# Altium integrated library NSC Converter Digital to Analog.IntLib: 73 symbols (part 2 of 2)
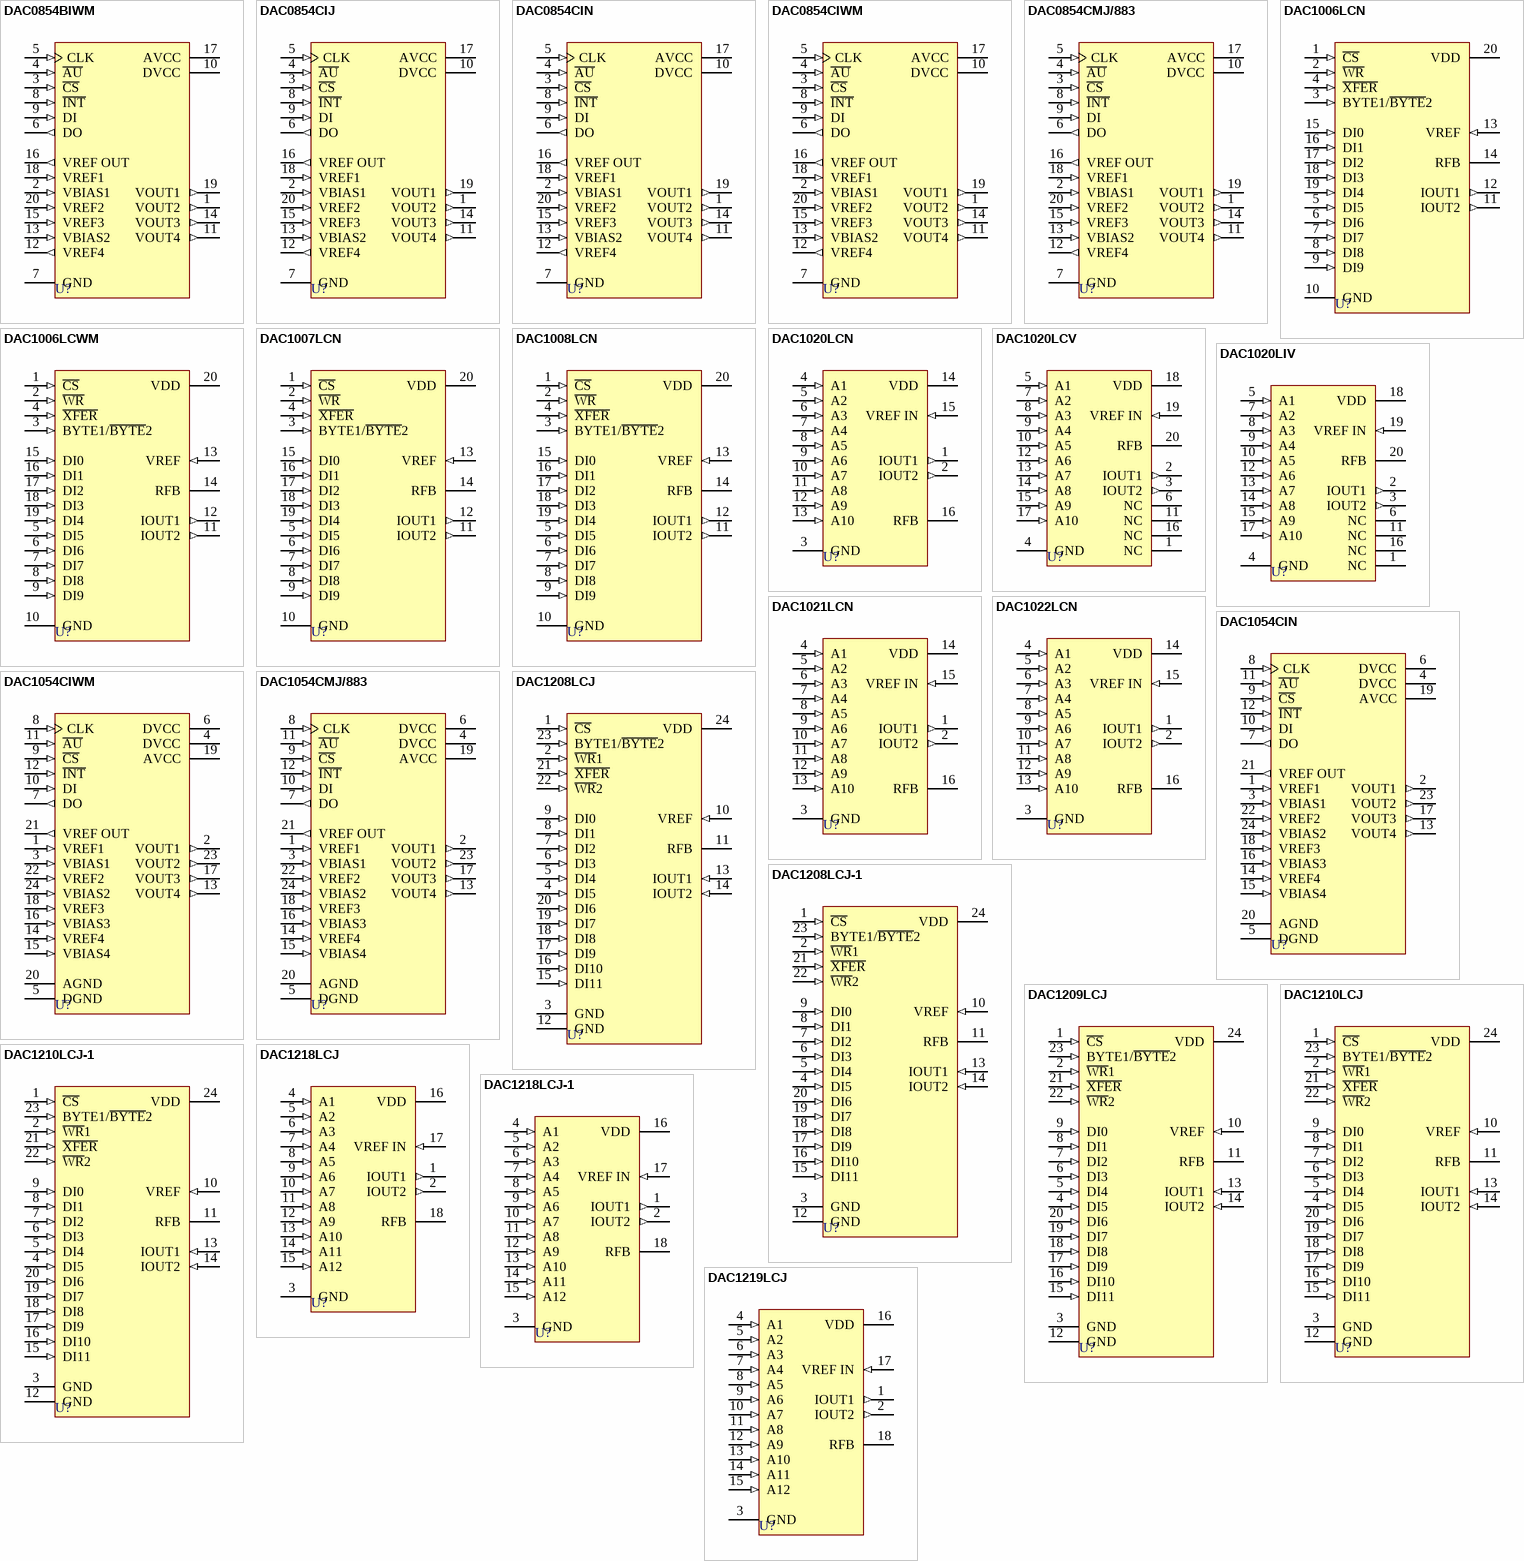
[diagram p3: symbols DAC0854BIWM to DAC1219LCJ]

## DAC1054CIN
designator U?
Quad 10-Bit Voltage-Output Serial D/A Converter with Readback; ComponentAvailability: Obsolete; Published: 15-Apr-2002; LatestRevisionDate: 06-Jun-2005; LatestRevisionNote: Stylized 3D Model Added.; DatasheetVersion: Jan-1995; PackageVersion: 2000; PackageReference: N24A; Publisher: Altium Limited; PackageDescription: DIP; 24 Leads; Row Spacing 15.24 mm; Pitch 2.54 mm; ComponentLink1Description: Manufacturer Link; ComponentLink1URL: http://www.national.com/; ComponentLink2Description: Datasheet; ComponentLink2URL: http://www.national.com/ds.cgi/DA/DAC1054.pdf; ComponentLink3Description: Discontinuation Notice; ComponentLink3URL: http://www.national.com/obs/obsolescence.txt; ComponentLink4Description: URL Link1; ComponentLink4URL: http://www.national.com/pf/DA/DAC1054.html
footprint N24A (DIP; 24 Leads; Row Spacing 15.24 mm; Pitch 2.54 mm)
3D model J24A (DIP; 24 Leads; Row Spacing 15.24 mm; Pitch 2.54 mm)
pins: 1 VREF1 (in), 2 VOUT1 (out), 3 VBIAS1 (in), 4 DVCC (power), 5 DGND (power), 6 DVCC (power), 7 DO (out), 8 CLK (in), 9 ~{CS} (in), 10 DI (in), 11 ~{AU} (in), 12 ~{INT} (in), 13 VOUT4 (out), 14 VREF4 (in), 15 VBIAS4 (in), 16 VBIAS3 (in), 17 VOUT3 (out), 18 VREF3 (in), 19 AVCC (power), 20 AGND (power), 21 VREF OUT (out), 22 VREF2 (in), 23 VOUT2 (out), 24 VBIAS2 (in)

## DAC1054CIWM
designator U?
Quad 10-Bit Voltage-Output Serial D/A Converter with Readback; ComponentAvailability: Obsolete; Published: 15-Apr-2002; LatestRevisionDate: 13-Apr-2006; LatestRevisionNote: IPC-7351 Footprint Added.; DatasheetVersion: Jan-1995; PackageVersion: 2000; PackageReference: M24B; Publisher: Altium Limited; PackageDescription: 24-Pin Small Outline Integrated Circuit 1.27 mm Pitch; ComponentLink1Description: Manufacturer Link; ComponentLink1URL: http://www.national.com/; ComponentLink2Description: Datasheet; ComponentLink2URL: http://www.national.com/ds.cgi/DA/DAC1054.pdf; ComponentLink3Description: Discontinuation Notice; ComponentLink3URL: http://www.national.com/obs/obsolescence.txt; ComponentLink4Description: URL Link1; ComponentLink4URL: http://www.national.com/pf/DA/DAC1054.html
footprint M24B_N (SOIC, 24-Leads, Body 15.4x7.5mm, Pitch 1.27mm, IPC Medium Density)
footprint M24B_L (SOIC, 24-Leads, Body 15.4x7.5mm, Pitch 1.27mm, IPC High Density)
footprint M24B_M (SOIC, 24-Leads, Body 15.4x7.5mm, Pitch 1.27mm, IPC Low Density)
3D model M24B (24-Pin Small Outline Integrated Circuit 1.27 mm Pitch)
pins: 1 VREF1 (in), 2 VOUT1 (out), 3 VBIAS1 (in), 4 DVCC (power), 5 DGND (power), 6 DVCC (power), 7 DO (out), 8 CLK (in), 9 ~{CS} (in), 10 DI (in), 11 ~{AU} (in), 12 ~{INT} (in), 13 VOUT4 (out), 14 VREF4 (in), 15 VBIAS4 (in), 16 VBIAS3 (in), 17 VOUT3 (out), 18 VREF3 (in), 19 AVCC (power), 20 AGND (power), 21 VREF OUT (out), 22 VREF2 (in), 23 VOUT2 (out), 24 VBIAS2 (in)

## DAC1054CMJ/883
designator U?
Quad 10-Bit Voltage-Output Serial D/A Converter with Readback; Published: 15-Apr-2002; LatestRevisionDate: 06-Jun-2005; LatestRevisionNote: Stylized 3D Model Added.; DatasheetVersion: Jan-1995; PackageVersion: 2000; PackageReference: J24A; Publisher: Altium Limited; PackageDescription: DIP; 24 Leads; Row Spacing 15.24 mm; Pitch 2.54 mm; ComponentLink1Description: Manufacturer Link; ComponentLink1URL: http://www.national.com/; ComponentLink2Description: Datasheet; ComponentLink2URL: http://www.national.com/ds.cgi/DA/DAC1054.pdf; ComponentLink3Description: URL Link1; ComponentLink3URL: http://www.national.com/pf/DA/DAC1054.html
footprint J24A (DIP; 24 Leads; Row Spacing 15.24 mm; Pitch 2.54 mm)
3D model J24A (DIP; 24 Leads; Row Spacing 15.24 mm; Pitch 2.54 mm)
pins: 1 VREF1 (in), 2 VOUT1 (out), 3 VBIAS1 (in), 4 DVCC (power), 5 DGND (power), 6 DVCC (power), 7 DO (out), 8 CLK (in), 9 ~{CS} (in), 10 DI (in), 11 ~{AU} (in), 12 ~{INT} (in), 13 VOUT4 (out), 14 VREF4 (in), 15 VBIAS4 (in), 16 VBIAS3 (in), 17 VOUT3 (out), 18 VREF3 (in), 19 AVCC (power), 20 AGND (power), 21 VREF OUT (out), 22 VREF2 (in), 23 VOUT2 (out), 24 VBIAS2 (in)

## DAC1208LCJ
designator U?
12-Bit, µP-Compatible, Double-Buffered Digital-to-Analog Converter; ComponentAvailability: Obsolete; Published: 15-Apr-2002; LatestRevisionDate: 06-Jun-2005; LatestRevisionNote: Stylized 3D Model Added.; DatasheetVersion: Feb-1995; PackageVersion: 2000; PackageReference: J24A; Publisher: Altium Limited; PackageDescription: DIP; 24 Leads; Row Spacing 15.24 mm; Pitch 2.54 mm; ComponentLink1Description: Manufacturer Link; ComponentLink1URL: http://www.national.com/; ComponentLink2Description: Datasheet; ComponentLink2URL: http://www.national.com/ds.cgi/DA/DAC1208.pdf; ComponentLink3Description: Discontinuation Notice; ComponentLink3URL: http://www.national.com/obs/obsolescence.txt; ComponentLink4Description: URL Link1; ComponentLink4URL: http://www.national.com/pf/DA/DAC1208.html
footprint J24A (DIP; 24 Leads; Row Spacing 15.24 mm; Pitch 2.54 mm)
3D model J24A (DIP; 24 Leads; Row Spacing 15.24 mm; Pitch 2.54 mm)
pins: 1 ~{CS} (in), 2 ~{WR}1 (in), 3 GND (power), 4 DI5 (in), 5 DI4 (in), 6 DI3 (in), 7 DI2 (in), 8 DI1 (in), 9 DI0 (in), 10 VREF (in), 11 RFB, 12 GND (power), 13 IOUT1 (in), 14 IOUT2 (in), 15 DI11 (in), 16 DI10 (in), 17 DI9 (in), 18 DI8 (in), 19 DI7 (in), 20 DI6 (in), 21 ~{XFER} (in), 22 ~{WR}2 (in), 23 BYTE1/~{BYTE}2 (in), 24 VDD (power)

## DAC1208LCJ-1
designator U?
12-Bit, µP-Compatible, Double-Buffered Digital-to-Analog Converter; ComponentAvailability: Obsolete; Published: 15-Apr-2002; LatestRevisionDate: 06-Jun-2005; LatestRevisionNote: Stylized 3D Model Added.; DatasheetVersion: Feb-1995; PackageVersion: 2000; PackageReference: J24A; Publisher: Altium Limited; PackageDescription: DIP; 24 Leads; Row Spacing 15.24 mm; Pitch 2.54 mm; ComponentLink1Description: Manufacturer Link; ComponentLink1URL: http://www.national.com/; ComponentLink2Description: Datasheet; ComponentLink2URL: http://www.national.com/ds.cgi/DA/DAC1208.pdf; ComponentLink3Description: Discontinuation Notice; ComponentLink3URL: http://www.national.com/obs/obsolescence.txt; ComponentLink4Description: URL Link1; ComponentLink4URL: http://www.national.com/pf/DA/DAC1208.html
footprint J24A (DIP; 24 Leads; Row Spacing 15.24 mm; Pitch 2.54 mm)
3D model J24A (DIP; 24 Leads; Row Spacing 15.24 mm; Pitch 2.54 mm)
pins: 1 ~{CS} (in), 2 ~{WR}1 (in), 3 GND (power), 4 DI5 (in), 5 DI4 (in), 6 DI3 (in), 7 DI2 (in), 8 DI1 (in), 9 DI0 (in), 10 VREF (in), 11 RFB, 12 GND (power), 13 IOUT1 (in), 14 IOUT2 (in), 15 DI11 (in), 16 DI10 (in), 17 DI9 (in), 18 DI8 (in), 19 DI7 (in), 20 DI6 (in), 21 ~{XFER} (in), 22 ~{WR}2 (in), 23 BYTE1/~{BYTE}2 (in), 24 VDD (power)

## DAC1209LCJ
designator U?
12-Bit, µP-Compatible, Double-Buffered Digital-to-Analog Converter; ComponentAvailability: Obsolete; Published: 15-Apr-2002; LatestRevisionDate: 06-Jun-2005; LatestRevisionNote: Stylized 3D Model Added.; DatasheetVersion: Feb-1995; PackageVersion: 2000; PackageReference: J24A; Publisher: Altium Limited; PackageDescription: DIP; 24 Leads; Row Spacing 15.24 mm; Pitch 2.54 mm; ComponentLink1Description: Manufacturer Link; ComponentLink1URL: http://www.national.com/; ComponentLink2Description: Datasheet; ComponentLink2URL: http://www.national.com/ds.cgi/DA/DAC1208.pdf; ComponentLink3Description: Discontinuation Notice; ComponentLink3URL: http://www.national.com/obs/obsolescence.txt; ComponentLink4Description: URL Link1; ComponentLink4URL: http://www.national.com/pf/DA/DAC1209.html
footprint J24A (DIP; 24 Leads; Row Spacing 15.24 mm; Pitch 2.54 mm)
3D model J24A (DIP; 24 Leads; Row Spacing 15.24 mm; Pitch 2.54 mm)
pins: 1 ~{CS} (in), 2 ~{WR}1 (in), 3 GND (power), 4 DI5 (in), 5 DI4 (in), 6 DI3 (in), 7 DI2 (in), 8 DI1 (in), 9 DI0 (in), 10 VREF (in), 11 RFB, 12 GND (power), 13 IOUT1 (in), 14 IOUT2 (in), 15 DI11 (in), 16 DI10 (in), 17 DI9 (in), 18 DI8 (in), 19 DI7 (in), 20 DI6 (in), 21 ~{XFER} (in), 22 ~{WR}2 (in), 23 BYTE1/~{BYTE}2 (in), 24 VDD (power)

## DAC1210LCJ
designator U?
12-Bit, µP-Compatible, Double-Buffered Digital-to-Analog Converter; ComponentAvailability: Obsolete; Published: 15-Apr-2002; LatestRevisionDate: 06-Jun-2005; LatestRevisionNote: Stylized 3D Model Added.; DatasheetVersion: Feb-1995; PackageVersion: 2000; PackageReference: J24A; Publisher: Altium Limited; PackageDescription: DIP; 24 Leads; Row Spacing 15.24 mm; Pitch 2.54 mm; ComponentLink1Description: Manufacturer Link; ComponentLink1URL: http://www.national.com/; ComponentLink2Description: Datasheet; ComponentLink2URL: http://www.national.com/ds.cgi/DA/DAC1208.pdf; ComponentLink3Description: Discontinuation Notice; ComponentLink3URL: http://www.national.com/obs/obsolescence.txt; ComponentLink4Description: URL Link1; ComponentLink4URL: http://www.national.com/pf/DA/DAC1210.html
footprint J24A (DIP; 24 Leads; Row Spacing 15.24 mm; Pitch 2.54 mm)
3D model J24A (DIP; 24 Leads; Row Spacing 15.24 mm; Pitch 2.54 mm)
pins: 1 ~{CS} (in), 2 ~{WR}1 (in), 3 GND (power), 4 DI5 (in), 5 DI4 (in), 6 DI3 (in), 7 DI2 (in), 8 DI1 (in), 9 DI0 (in), 10 VREF (in), 11 RFB, 12 GND (power), 13 IOUT1 (in), 14 IOUT2 (in), 15 DI11 (in), 16 DI10 (in), 17 DI9 (in), 18 DI8 (in), 19 DI7 (in), 20 DI6 (in), 21 ~{XFER} (in), 22 ~{WR}2 (in), 23 BYTE1/~{BYTE}2 (in), 24 VDD (power)

## DAC1210LCJ-1
designator U?
12-Bit, µP-Compatible, Double-Buffered Digital-to-Analog Converter; ComponentAvailability: Obsolete; Published: 15-Apr-2002; LatestRevisionDate: 06-Jun-2005; LatestRevisionNote: Stylized 3D Model Added.; DatasheetVersion: Feb-1995; PackageVersion: 2000; PackageReference: J24A; Publisher: Altium Limited; PackageDescription: DIP; 24 Leads; Row Spacing 15.24 mm; Pitch 2.54 mm; ComponentLink1Description: Manufacturer Link; ComponentLink1URL: http://www.national.com/; ComponentLink2Description: Datasheet; ComponentLink2URL: http://www.national.com/ds.cgi/DA/DAC1208.pdf; ComponentLink3Description: Discontinuation Notice; ComponentLink3URL: http://www.national.com/obs/obsolescence.txt; ComponentLink4Description: URL Link1; ComponentLink4URL: http://www.national.com/pf/DA/DAC1210.html
footprint J24A (DIP; 24 Leads; Row Spacing 15.24 mm; Pitch 2.54 mm)
3D model J24A (DIP; 24 Leads; Row Spacing 15.24 mm; Pitch 2.54 mm)
pins: 1 ~{CS} (in), 2 ~{WR}1 (in), 3 GND (power), 4 DI5 (in), 5 DI4 (in), 6 DI3 (in), 7 DI2 (in), 8 DI1 (in), 9 DI0 (in), 10 VREF (in), 11 RFB, 12 GND (power), 13 IOUT1 (in), 14 IOUT2 (in), 15 DI11 (in), 16 DI10 (in), 17 DI9 (in), 18 DI8 (in), 19 DI7 (in), 20 DI6 (in), 21 ~{XFER} (in), 22 ~{WR}2 (in), 23 BYTE1/~{BYTE}2 (in), 24 VDD (power)

## DAC1218LCJ
designator U?
12-Bit Binary Multiplying D/A Converter; ComponentAvailability: Obsolete; Published: 15-Apr-2002; LatestRevisionDate: 06-Jun-2005; LatestRevisionNote: Stylized 3D Model Added.; DatasheetVersion: Dec-1994; PackageVersion: 1995; PackageReference: J18A; Publisher: Altium Limited; PackageDescription: DIP; 18 Leads; Row Spacing 7.62 mm; Pitch 2.54 mm; ComponentLink1Description: Manufacturer Link; ComponentLink1URL: http://www.national.com/; ComponentLink2Description: Datasheet; ComponentLink2URL: http://www.national.com/ds.cgi/DA/DAC1218.pdf; ComponentLink3Description: Discontinuation Notice; ComponentLink3URL: http://www.national.com/obs/obsolescence.txt; ComponentLink4Description: URL Link1; ComponentLink4URL: http://www.national.com/pf/DA/DAC1218.html
footprint J18A (DIP; 18 Leads; Row Spacing 7.62 mm; Pitch 2.54 mm)
3D model J18A (DIP; 18 Leads; Row Spacing 7.62 mm; Pitch 2.54 mm)
pins: 1 IOUT1 (out), 2 IOUT2 (out), 3 GND (power), 4 A1 (in), 5 A2 (in), 6 A3 (in), 7 A4 (in), 8 A5 (in), 9 A6 (in), 10 A7 (in), 11 A8 (in), 12 A9 (in), 13 A10 (in), 14 A11 (in), 15 A12 (in), 16 VDD (power), 17 VREF IN (in), 18 RFB

## DAC1218LCJ-1
designator U?
12-Bit Binary Multiplying D/A Converter; ComponentAvailability: Obsolete; Published: 15-Apr-2002; LatestRevisionDate: 06-Jun-2005; LatestRevisionNote: Stylized 3D Model Added.; DatasheetVersion: Dec-1994; PackageVersion: 1995; PackageReference: J18A; Publisher: Altium Limited; PackageDescription: DIP; 18 Leads; Row Spacing 7.62 mm; Pitch 2.54 mm; ComponentLink1Description: Manufacturer Link; ComponentLink1URL: http://www.national.com/; ComponentLink2Description: Datasheet; ComponentLink2URL: http://www.national.com/ds.cgi/DA/DAC1218.pdf; ComponentLink3Description: Discontinuation Notice; ComponentLink3URL: http://www.national.com/obs/obsolescence.txt; ComponentLink4Description: URL Link1; ComponentLink4URL: http://www.national.com/pf/DA/DAC1218.html
footprint J18A (DIP; 18 Leads; Row Spacing 7.62 mm; Pitch 2.54 mm)
3D model J18A (DIP; 18 Leads; Row Spacing 7.62 mm; Pitch 2.54 mm)
pins: 1 IOUT1 (out), 2 IOUT2 (out), 3 GND (power), 4 A1 (in), 5 A2 (in), 6 A3 (in), 7 A4 (in), 8 A5 (in), 9 A6 (in), 10 A7 (in), 11 A8 (in), 12 A9 (in), 13 A10 (in), 14 A11 (in), 15 A12 (in), 16 VDD (power), 17 VREF IN (in), 18 RFB

## DAC1219LCJ
designator U?
12-Bit Binary Multiplying D/A Converter; ComponentAvailability: Obsolete; Published: 15-Apr-2002; LatestRevisionDate: 06-Jun-2005; LatestRevisionNote: Stylized 3D Model Added.; DatasheetVersion: Dec-1994; PackageVersion: 1995; PackageReference: J18A; Publisher: Altium Limited; PackageDescription: DIP; 18 Leads; Row Spacing 7.62 mm; Pitch 2.54 mm; ComponentLink1Description: Manufacturer Link; ComponentLink1URL: http://www.national.com/; ComponentLink2Description: Datasheet; ComponentLink2URL: http://www.national.com/ds.cgi/DA/DAC1218.pdf; ComponentLink3Description: Discontinuation Notice; ComponentLink3URL: http://www.national.com/obs/obsolescence.txt; ComponentLink4Description: URL Link1; ComponentLink4URL: http://www.national.com/pf/DA/DAC1219.html
footprint J18A (DIP; 18 Leads; Row Spacing 7.62 mm; Pitch 2.54 mm)
3D model J18A (DIP; 18 Leads; Row Spacing 7.62 mm; Pitch 2.54 mm)
pins: 1 IOUT1 (out), 2 IOUT2 (out), 3 GND (power), 4 A1 (in), 5 A2 (in), 6 A3 (in), 7 A4 (in), 8 A5 (in), 9 A6 (in), 10 A7 (in), 11 A8 (in), 12 A9 (in), 13 A10 (in), 14 A11 (in), 15 A12 (in), 16 VDD (power), 17 VREF IN (in), 18 RFB

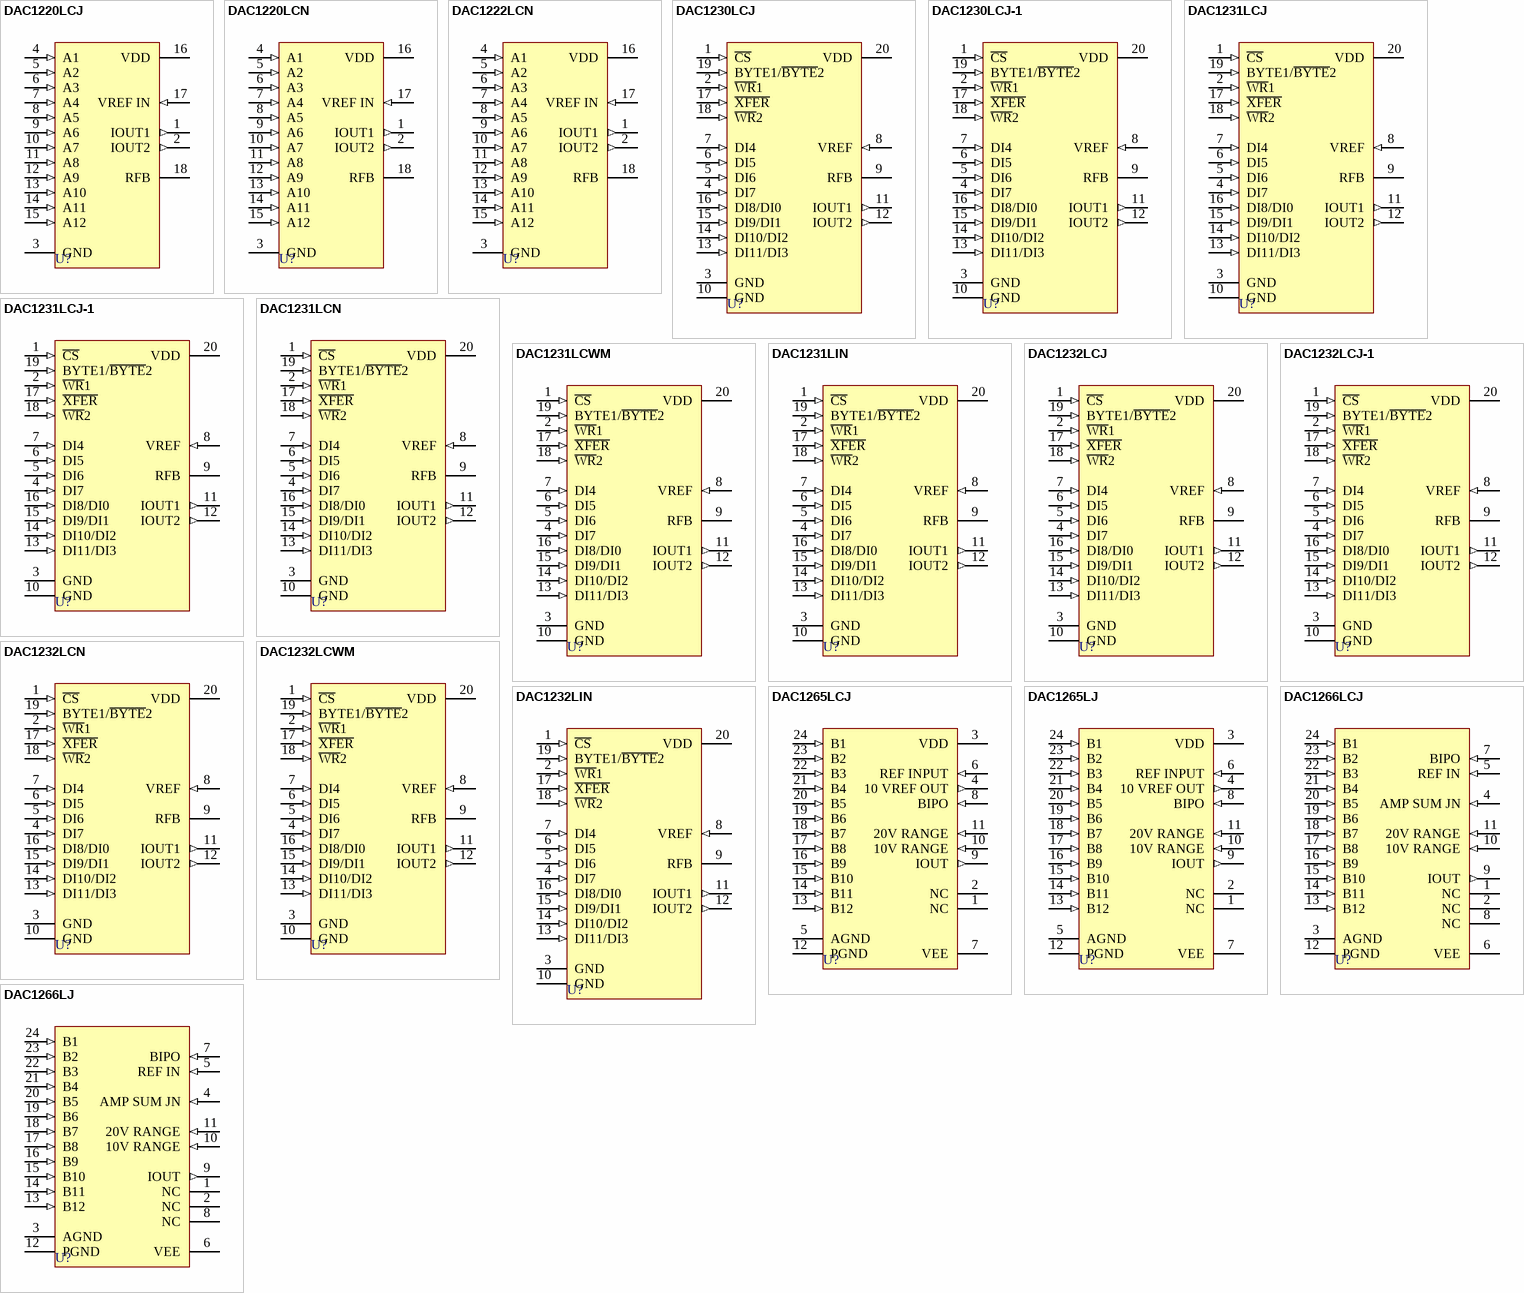
[diagram p2: symbols DAC1220LCJ to DAC1266LJ]

## DAC1220LCJ
designator U?
12-Bit Binary Multiplying D/A Converter; ComponentAvailability: Obsolete; Published: 15-Apr-2002; LatestRevisionDate: 06-Jun-2005; LatestRevisionNote: Stylized 3D Model Added.; DatasheetVersion: May-1996; PackageVersion: 1995; PackageReference: J18A; Publisher: Altium Limited; PackageDescription: DIP; 18 Leads; Row Spacing 7.62 mm; Pitch 2.54 mm; ComponentLink1Description: Manufacturer Link; ComponentLink1URL: http://www.national.com/; ComponentLink2Description: Datasheet; ComponentLink2URL: http://www.national.com/ds.cgi/DA/DAC1020.pdf; ComponentLink3Description: Discontinuation Notice; ComponentLink3URL: http://www.national.com/obs/obsolescence.txt; ComponentLink4Description: URL Link1; ComponentLink4URL: http://www.national.com/pf/DA/DAC1220.html
footprint J18A (DIP; 18 Leads; Row Spacing 7.62 mm; Pitch 2.54 mm)
3D model J18A (DIP; 18 Leads; Row Spacing 7.62 mm; Pitch 2.54 mm)
pins: 1 IOUT1 (out), 2 IOUT2 (out), 3 GND (power), 4 A1 (in), 5 A2 (in), 6 A3 (in), 7 A4 (in), 8 A5 (in), 9 A6 (in), 10 A7 (in), 11 A8 (in), 12 A9 (in), 13 A10 (in), 14 A11 (in), 15 A12 (in), 16 VDD (power), 17 VREF IN (in), 18 RFB

## DAC1220LCN
designator U?
12-Bit Binary Multiplying D/A Converter; ComponentAvailability: Obsolete; Published: 15-Apr-2002; LatestRevisionDate: 06-Jun-2005; LatestRevisionNote: Stylized 3D Model Added.; DatasheetVersion: May-1996; PackageVersion: 1995; PackageReference: N18A; Publisher: Altium Limited; PackageDescription: DIP; 18 Leads; Row Spacing 7.62 mm; Pitch 2.54 mm; Code_JEDEC: MS-001-BC; ComponentLink1Description: Manufacturer Link; ComponentLink1URL: http://www.national.com/; ComponentLink2Description: Datasheet; ComponentLink2URL: http://www.national.com/ds.cgi/DA/DAC1020.pdf; ComponentLink3Description: Discontinuation Notice; ComponentLink3URL: http://www.national.com/obs/obsolescence.txt; ComponentLink4Description: URL Link1; ComponentLink4URL: http://www.national.com/pf/DA/DAC1220.html
footprint N18A (DIP; 18 Leads; Row Spacing 7.62 mm; Pitch 2.54 mm)
3D model N18A (DIP; 18 Leads; Row Spacing 7.62 mm; Pitch 2.54 mm)
pins: 1 IOUT1 (out), 2 IOUT2 (out), 3 GND (power), 4 A1 (in), 5 A2 (in), 6 A3 (in), 7 A4 (in), 8 A5 (in), 9 A6 (in), 10 A7 (in), 11 A8 (in), 12 A9 (in), 13 A10 (in), 14 A11 (in), 15 A12 (in), 16 VDD (power), 17 VREF IN (in), 18 RFB

## DAC1222LCN
designator U?
12-Bit Binary Multiplying D/A Converter; ComponentAvailability: Obsolete; Published: 15-Apr-2002; LatestRevisionDate: 06-Jun-2005; LatestRevisionNote: Stylized 3D Model Added.; DatasheetVersion: May-1996; PackageVersion: 1995; PackageReference: N18A; Publisher: Altium Limited; PackageDescription: DIP; 18 Leads; Row Spacing 7.62 mm; Pitch 2.54 mm; Code_JEDEC: MS-001-BC; ComponentLink1Description: Manufacturer Link; ComponentLink1URL: http://www.national.com/; ComponentLink2Description: Datasheet; ComponentLink2URL: http://www.national.com/ds.cgi/DA/DAC1020.pdf; ComponentLink3Description: Discontinuation Notice; ComponentLink3URL: http://www.national.com/obs/obsolescence.txt; ComponentLink4Description: URL Link1; ComponentLink4URL: http://www.national.com/pf/DA/DAC1222.html
footprint N18A (DIP; 18 Leads; Row Spacing 7.62 mm; Pitch 2.54 mm)
3D model N18A (DIP; 18 Leads; Row Spacing 7.62 mm; Pitch 2.54 mm)
pins: 1 IOUT1 (out), 2 IOUT2 (out), 3 GND (power), 4 A1 (in), 5 A2 (in), 6 A3 (in), 7 A4 (in), 8 A5 (in), 9 A6 (in), 10 A7 (in), 11 A8 (in), 12 A9 (in), 13 A10 (in), 14 A11 (in), 15 A12 (in), 16 VDD (power), 17 VREF IN (in), 18 RFB

## DAC1230LCJ
designator U?
12-Bit, µP-Compatible, Double-Buffered Digital-to-Analog Converter; ComponentAvailability: Obsolete; Published: 15-Apr-2002; LatestRevisionDate: 06-Jun-2005; LatestRevisionNote: Stylized 3D Model Added.; DatasheetVersion: Feb-1995; PackageVersion: 2000; PackageReference: J20A; Publisher: Altium Limited; PackageDescription: DIP; 20 Leads; Row Spacing 7.62 mm; Pitch 2.54 mm; Code_JEDEC: MS-015-AE; ComponentLink1Description: Manufacturer Link; ComponentLink1URL: http://www.national.com/; ComponentLink2Description: Datasheet; ComponentLink2URL: http://www.national.com/ds.cgi/DA/DAC1208.pdf; ComponentLink3Description: Discontinuation Notice; ComponentLink3URL: http://www.national.com/obs/obsolescence.txt; ComponentLink4Description: URL Link1; ComponentLink4URL: http://www.national.com/pf/DA/DAC1230.html
footprint J20A (DIP; 20 Leads; Row Spacing 7.62 mm; Pitch 2.54 mm)
3D model J20A (DIP; 20 Leads; Row Spacing 7.62 mm; Pitch 2.54 mm)
pins: 1 ~{CS} (in), 2 ~{WR}1 (in), 3 GND (power), 4 DI7 (in), 5 DI6 (in), 6 DI5 (in), 7 DI4 (in), 8 VREF (in), 9 RFB, 10 GND (power), 11 IOUT1 (out), 12 IOUT2 (out), 13 DI11/DI3 (in), 14 DI10/DI2 (in), 15 DI9/DI1 (in), 16 DI8/DI0 (in), 17 ~{XFER} (in), 18 ~{WR}2 (in), 19 BYTE1/~{BYTE}2 (in), 20 VDD (power)

## DAC1230LCJ-1
designator U?
12-Bit, µP-Compatible, Double-Buffered Digital-to-Analog Converter; ComponentAvailability: Obsolete; Published: 15-Apr-2002; LatestRevisionDate: 06-Jun-2005; LatestRevisionNote: Stylized 3D Model Added.; DatasheetVersion: Feb-1995; PackageVersion: 2000; PackageReference: J20A; Publisher: Altium Limited; PackageDescription: DIP; 20 Leads; Row Spacing 7.62 mm; Pitch 2.54 mm; Code_JEDEC: MS-015-AE; ComponentLink1Description: Manufacturer Link; ComponentLink1URL: http://www.national.com/; ComponentLink2Description: Datasheet; ComponentLink2URL: http://www.national.com/ds.cgi/DA/DAC1208.pdf; ComponentLink3Description: Discontinuation Notice; ComponentLink3URL: http://www.national.com/obs/obsolescence.txt; ComponentLink4Description: URL Link1; ComponentLink4URL: http://www.national.com/pf/DA/DAC1230.html
footprint J20A (DIP; 20 Leads; Row Spacing 7.62 mm; Pitch 2.54 mm)
3D model J20A (DIP; 20 Leads; Row Spacing 7.62 mm; Pitch 2.54 mm)
pins: 1 ~{CS} (in), 2 ~{WR}1 (in), 3 GND (power), 4 DI7 (in), 5 DI6 (in), 6 DI5 (in), 7 DI4 (in), 8 VREF (in), 9 RFB, 10 GND (power), 11 IOUT1 (out), 12 IOUT2 (out), 13 DI11/DI3 (in), 14 DI10/DI2 (in), 15 DI9/DI1 (in), 16 DI8/DI0 (in), 17 ~{XFER} (in), 18 ~{WR}2 (in), 19 BYTE1/~{BYTE}2 (in), 20 VDD (power)

## DAC1231LCJ
designator U?
12-Bit, µP-Compatible, Double-Buffered Digital-to-Analog Converter; ComponentAvailability: Obsolete; Published: 15-Apr-2002; LatestRevisionDate: 06-Jun-2005; LatestRevisionNote: Stylized 3D Model Added.; DatasheetVersion: Feb-1995; PackageVersion: 2000; PackageReference: J20A; Publisher: Altium Limited; PackageDescription: DIP; 20 Leads; Row Spacing 7.62 mm; Pitch 2.54 mm; Code_JEDEC: MS-015-AE; ComponentLink1Description: Manufacturer Link; ComponentLink1URL: http://www.national.com/; ComponentLink2Description: Datasheet; ComponentLink2URL: http://www.national.com/ds.cgi/DA/DAC1208.pdf; ComponentLink3Description: Discontinuation Notice; ComponentLink3URL: http://www.national.com/obs/obsolescence.txt; ComponentLink4Description: URL Link1; ComponentLink4URL: http://www.national.com/pf/DA/DAC1231.html
footprint J20A (DIP; 20 Leads; Row Spacing 7.62 mm; Pitch 2.54 mm)
3D model J20A (DIP; 20 Leads; Row Spacing 7.62 mm; Pitch 2.54 mm)
pins: 1 ~{CS} (in), 2 ~{WR}1 (in), 3 GND (power), 4 DI7 (in), 5 DI6 (in), 6 DI5 (in), 7 DI4 (in), 8 VREF (in), 9 RFB, 10 GND (power), 11 IOUT1 (out), 12 IOUT2 (out), 13 DI11/DI3 (in), 14 DI10/DI2 (in), 15 DI9/DI1 (in), 16 DI8/DI0 (in), 17 ~{XFER} (in), 18 ~{WR}2 (in), 19 BYTE1/~{BYTE}2 (in), 20 VDD (power)

## DAC1231LCJ-1
designator U?
12-Bit, µP-Compatible, Double-Buffered Digital-to-Analog Converter; ComponentAvailability: Obsolete; Published: 15-Apr-2002; LatestRevisionDate: 06-Jun-2005; LatestRevisionNote: Stylized 3D Model Added.; DatasheetVersion: Feb-1995; PackageVersion: 2000; PackageReference: J20A; Publisher: Altium Limited; PackageDescription: DIP; 20 Leads; Row Spacing 7.62 mm; Pitch 2.54 mm; Code_JEDEC: MS-015-AE; ComponentLink1Description: Manufacturer Link; ComponentLink1URL: http://www.national.com/; ComponentLink2Description: Datasheet; ComponentLink2URL: http://www.national.com/ds.cgi/DA/DAC1208.pdf; ComponentLink3Description: Discontinuation Notice; ComponentLink3URL: http://www.national.com/obs/obsolescence.txt; ComponentLink4Description: URL Link1; ComponentLink4URL: http://www.national.com/pf/DA/DAC1231.html
footprint J20A (DIP; 20 Leads; Row Spacing 7.62 mm; Pitch 2.54 mm)
3D model J20A (DIP; 20 Leads; Row Spacing 7.62 mm; Pitch 2.54 mm)
pins: 1 ~{CS} (in), 2 ~{WR}1 (in), 3 GND (power), 4 DI7 (in), 5 DI6 (in), 6 DI5 (in), 7 DI4 (in), 8 VREF (in), 9 RFB, 10 GND (power), 11 IOUT1 (out), 12 IOUT2 (out), 13 DI11/DI3 (in), 14 DI10/DI2 (in), 15 DI9/DI1 (in), 16 DI8/DI0 (in), 17 ~{XFER} (in), 18 ~{WR}2 (in), 19 BYTE1/~{BYTE}2 (in), 20 VDD (power)

## DAC1231LCN
designator U?
12-Bit, µP-Compatible, Double-Buffered Digital-to-Analog Converter; ComponentAvailability: Obsolete; Published: 15-Apr-2002; LatestRevisionDate: 06-Jun-2005; LatestRevisionNote: Stylized 3D Model Added.; DatasheetVersion: Feb-1995; PackageVersion: 2000; PackageReference: N20A; Publisher: Altium Limited; PackageDescription: DIP; 20 Leads; Row Spacing 7.62 mm; Pitch 2.54 mm; Code_JEDEC: MS-001-AD; ComponentLink1Description: Manufacturer Link; ComponentLink1URL: http://www.national.com/; ComponentLink2Description: Datasheet; ComponentLink2URL: http://www.national.com/ds.cgi/DA/DAC1208.pdf; ComponentLink3Description: Discontinuation Notice; ComponentLink3URL: http://www.national.com/obs/obsolescence.txt; ComponentLink4Description: URL Link1; ComponentLink4URL: http://www.national.com/pf/DA/DAC1231.html
footprint N20A (DIP; 20 Leads; Row Spacing 7.62 mm; Pitch 2.54 mm)
3D model N20A (DIP; 20 Leads; Row Spacing 7.62 mm; Pitch 2.54 mm)
pins: 1 ~{CS} (in), 2 ~{WR}1 (in), 3 GND (power), 4 DI7 (in), 5 DI6 (in), 6 DI5 (in), 7 DI4 (in), 8 VREF (in), 9 RFB, 10 GND (power), 11 IOUT1 (out), 12 IOUT2 (out), 13 DI11/DI3 (in), 14 DI10/DI2 (in), 15 DI9/DI1 (in), 16 DI8/DI0 (in), 17 ~{XFER} (in), 18 ~{WR}2 (in), 19 BYTE1/~{BYTE}2 (in), 20 VDD (power)

## DAC1231LCWM
designator U?
12-Bit, µP-Compatible, Double-Buffered Digital-to-Analog Converter; ComponentAvailability: Obsolete; Published: 15-Apr-2002; LatestRevisionDate: 13-Apr-2006; LatestRevisionNote: IPC-7351 Footprint Added.; DatasheetVersion: Feb-1995; PackageVersion: 2000; PackageReference: M20B; Publisher: Altium Limited; PackageDescription: 20-Pin Small Outline Integrated Circuit 1.27 mm Pitch; Code_JEDEC: MS-013-AC; Code_IPC: SOIC127P1030-20; ComponentLink1Description: Manufacturer Link; ComponentLink1URL: http://www.national.com/; ComponentLink2Description: Datasheet; ComponentLink2URL: http://www.national.com/ds.cgi/DA/DAC1208.pdf; ComponentLink3Description: Discontinuation Notice; ComponentLink3URL: http://www.national.com/obs/obsolescence.txt; ComponentLink4Description: URL Link1; ComponentLink4URL: http://www.national.com/pf/DA/DAC1231.html
footprint M20B_N (SOIC, 20-Leads, Body 12.8x7.5mm, Pitch 1.27mm, IPC Medium Density)
footprint M20B_L (SOIC, 20-Leads, Body 12.8x7.5mm, Pitch 1.27mm, IPC High Density)
footprint M20B_M (SOIC, 20-Leads, Body 12.8x7.5mm, Pitch 1.27mm, IPC Low Density)
3D model M20B (20-Pin Small Outline Integrated Circuit 1.27 mm Pitch)
pins: 1 ~{CS} (in), 2 ~{WR}1 (in), 3 GND (power), 4 DI7 (in), 5 DI6 (in), 6 DI5 (in), 7 DI4 (in), 8 VREF (in), 9 RFB, 10 GND (power), 11 IOUT1 (out), 12 IOUT2 (out), 13 DI11/DI3 (in), 14 DI10/DI2 (in), 15 DI9/DI1 (in), 16 DI8/DI0 (in), 17 ~{XFER} (in), 18 ~{WR}2 (in), 19 BYTE1/~{BYTE}2 (in), 20 VDD (power)

## DAC1231LIN
designator U?
12-Bit, µP-Compatible, Double-Buffered Digital-to-Analog Converter; Published: 15-Apr-2002; LatestRevisionDate: 06-Jun-2005; LatestRevisionNote: Stylized 3D Model Added.; DatasheetVersion: Feb-1995; PackageVersion: 2000; PackageReference: N20A; Publisher: Altium Limited; PackageDescription: DIP; 20 Leads; Row Spacing 7.62 mm; Pitch 2.54 mm; Code_JEDEC: MS-001-AD; ComponentLink1Description: Manufacturer Link; ComponentLink1URL: http://www.national.com/; ComponentLink2Description: Datasheet; ComponentLink2URL: http://www.national.com/ds.cgi/DA/DAC1208.pdf; ComponentLink3Description: URL Link1; ComponentLink3URL: http://www.national.com/pf/DA/DAC1231.html
footprint N20A (DIP; 20 Leads; Row Spacing 7.62 mm; Pitch 2.54 mm)
3D model N20A (DIP; 20 Leads; Row Spacing 7.62 mm; Pitch 2.54 mm)
pins: 1 ~{CS} (in), 2 ~{WR}1 (in), 3 GND (power), 4 DI7 (in), 5 DI6 (in), 6 DI5 (in), 7 DI4 (in), 8 VREF (in), 9 RFB, 10 GND (power), 11 IOUT1 (out), 12 IOUT2 (out), 13 DI11/DI3 (in), 14 DI10/DI2 (in), 15 DI9/DI1 (in), 16 DI8/DI0 (in), 17 ~{XFER} (in), 18 ~{WR}2 (in), 19 BYTE1/~{BYTE}2 (in), 20 VDD (power)

## DAC1232LCJ
designator U?
12-Bit, µP-Compatible, Double-Buffered Digital-to-Analog Converter; ComponentAvailability: Obsolete; Published: 15-Apr-2002; LatestRevisionDate: 06-Jun-2005; LatestRevisionNote: Stylized 3D Model Added.; DatasheetVersion: Feb-1995; PackageVersion: 2000; PackageReference: J20A; Publisher: Altium Limited; PackageDescription: DIP; 20 Leads; Row Spacing 7.62 mm; Pitch 2.54 mm; Code_JEDEC: MS-015-AE; ComponentLink1Description: Manufacturer Link; ComponentLink1URL: http://www.national.com/; ComponentLink2Description: Datasheet; ComponentLink2URL: http://www.national.com/ds.cgi/DA/DAC1208.pdf; ComponentLink3Description: Discontinuation Notice; ComponentLink3URL: http://www.national.com/obs/obsolescence.txt; ComponentLink4Description: URL Link1; ComponentLink4URL: http://www.national.com/pf/DA/DAC1232.html
footprint J20A (DIP; 20 Leads; Row Spacing 7.62 mm; Pitch 2.54 mm)
3D model J20A (DIP; 20 Leads; Row Spacing 7.62 mm; Pitch 2.54 mm)
pins: 1 ~{CS} (in), 2 ~{WR}1 (in), 3 GND (power), 4 DI7 (in), 5 DI6 (in), 6 DI5 (in), 7 DI4 (in), 8 VREF (in), 9 RFB, 10 GND (power), 11 IOUT1 (out), 12 IOUT2 (out), 13 DI11/DI3 (in), 14 DI10/DI2 (in), 15 DI9/DI1 (in), 16 DI8/DI0 (in), 17 ~{XFER} (in), 18 ~{WR}2 (in), 19 BYTE1/~{BYTE}2 (in), 20 VDD (power)

## DAC1232LCJ-1
designator U?
12-Bit, µP-Compatible, Double-Buffered Digital-to-Analog Converter; ComponentAvailability: Obsolete; Published: 15-Apr-2002; LatestRevisionDate: 06-Jun-2005; LatestRevisionNote: Stylized 3D Model Added.; DatasheetVersion: Feb-1995; PackageVersion: 2000; PackageReference: J20A; Publisher: Altium Limited; PackageDescription: DIP; 20 Leads; Row Spacing 7.62 mm; Pitch 2.54 mm; Code_JEDEC: MS-015-AE; ComponentLink1Description: Manufacturer Link; ComponentLink1URL: http://www.national.com/; ComponentLink2Description: Datasheet; ComponentLink2URL: http://www.national.com/ds.cgi/DA/DAC1208.pdf; ComponentLink3Description: Discontinuation Notice; ComponentLink3URL: http://www.national.com/obs/obsolescence.txt; ComponentLink4Description: URL Link1; ComponentLink4URL: http://www.national.com/pf/DA/DAC1232.html
footprint J20A (DIP; 20 Leads; Row Spacing 7.62 mm; Pitch 2.54 mm)
3D model J20A (DIP; 20 Leads; Row Spacing 7.62 mm; Pitch 2.54 mm)
pins: 1 ~{CS} (in), 2 ~{WR}1 (in), 3 GND (power), 4 DI7 (in), 5 DI6 (in), 6 DI5 (in), 7 DI4 (in), 8 VREF (in), 9 RFB, 10 GND (power), 11 IOUT1 (out), 12 IOUT2 (out), 13 DI11/DI3 (in), 14 DI10/DI2 (in), 15 DI9/DI1 (in), 16 DI8/DI0 (in), 17 ~{XFER} (in), 18 ~{WR}2 (in), 19 BYTE1/~{BYTE}2 (in), 20 VDD (power)

## DAC1232LCN
designator U?
12-Bit, µP-Compatible, Double-Buffered Digital-to-Analog Converter; ComponentAvailability: Obsolete; Published: 15-Apr-2002; LatestRevisionDate: 06-Jun-2005; LatestRevisionNote: Stylized 3D Model Added.; DatasheetVersion: Feb-1995; PackageVersion: 2000; PackageReference: N20A; Publisher: Altium Limited; PackageDescription: DIP; 20 Leads; Row Spacing 7.62 mm; Pitch 2.54 mm; Code_JEDEC: MS-001-AD; ComponentLink1Description: Manufacturer Link; ComponentLink1URL: http://www.national.com/; ComponentLink2Description: Datasheet; ComponentLink2URL: http://www.national.com/ds.cgi/DA/DAC1208.pdf; ComponentLink3Description: Discontinuation Notice; ComponentLink3URL: http://www.national.com/obs/obsolescence.txt; ComponentLink4Description: URL Link1; ComponentLink4URL: http://www.national.com/pf/DA/DAC1232.html
footprint N20A (DIP; 20 Leads; Row Spacing 7.62 mm; Pitch 2.54 mm)
3D model N20A (DIP; 20 Leads; Row Spacing 7.62 mm; Pitch 2.54 mm)
pins: 1 ~{CS} (in), 2 ~{WR}1 (in), 3 GND (power), 4 DI7 (in), 5 DI6 (in), 6 DI5 (in), 7 DI4 (in), 8 VREF (in), 9 RFB, 10 GND (power), 11 IOUT1 (out), 12 IOUT2 (out), 13 DI11/DI3 (in), 14 DI10/DI2 (in), 15 DI9/DI1 (in), 16 DI8/DI0 (in), 17 ~{XFER} (in), 18 ~{WR}2 (in), 19 BYTE1/~{BYTE}2 (in), 20 VDD (power)

## DAC1232LCWM
designator U?
12-Bit, µP-Compatible, Double-Buffered Digital-to-Analog Converter; ComponentAvailability: Obsolete; Published: 15-Apr-2002; LatestRevisionDate: 13-Apr-2006; LatestRevisionNote: IPC-7351 Footprint Added.; DatasheetVersion: Feb-1995; PackageVersion: 2000; PackageReference: M20B; Publisher: Altium Limited; PackageDescription: 20-Pin Small Outline Integrated Circuit 1.27 mm Pitch; Code_JEDEC: MS-013-AC; Code_IPC: SOIC127P1030-20; ComponentLink1Description: Manufacturer Link; ComponentLink1URL: http://www.national.com/; ComponentLink2Description: Datasheet; ComponentLink2URL: http://www.national.com/ds.cgi/DA/DAC1208.pdf; ComponentLink3Description: Discontinuation Notice; ComponentLink3URL: http://www.national.com/obs/obsolescence.txt; ComponentLink4Description: URL Link1; ComponentLink4URL: http://www.national.com/pf/DA/DAC1232.html
footprint M20B_N (SOIC, 20-Leads, Body 12.8x7.5mm, Pitch 1.27mm, IPC Medium Density)
footprint M20B_L (SOIC, 20-Leads, Body 12.8x7.5mm, Pitch 1.27mm, IPC High Density)
footprint M20B_M (SOIC, 20-Leads, Body 12.8x7.5mm, Pitch 1.27mm, IPC Low Density)
3D model M20B (20-Pin Small Outline Integrated Circuit 1.27 mm Pitch)
pins: 1 ~{CS} (in), 2 ~{WR}1 (in), 3 GND (power), 4 DI7 (in), 5 DI6 (in), 6 DI5 (in), 7 DI4 (in), 8 VREF (in), 9 RFB, 10 GND (power), 11 IOUT1 (out), 12 IOUT2 (out), 13 DI11/DI3 (in), 14 DI10/DI2 (in), 15 DI9/DI1 (in), 16 DI8/DI0 (in), 17 ~{XFER} (in), 18 ~{WR}2 (in), 19 BYTE1/~{BYTE}2 (in), 20 VDD (power)

## DAC1232LIN
designator U?
12-Bit, µP-Compatible, Double-Buffered Digital-to-Analog Converter; ComponentAvailability: Obsolete; Published: 15-Apr-2002; LatestRevisionDate: 06-Jun-2005; LatestRevisionNote: Stylized 3D Model Added.; DatasheetVersion: Feb-1995; PackageVersion: 2000; PackageReference: N20A; Publisher: Altium Limited; PackageDescription: DIP; 20 Leads; Row Spacing 7.62 mm; Pitch 2.54 mm; Code_JEDEC: MS-001-AD; ComponentLink1Description: Manufacturer Link; ComponentLink1URL: http://www.national.com/; ComponentLink2Description: Datasheet; ComponentLink2URL: http://www.national.com/ds.cgi/DA/DAC1208.pdf; ComponentLink3Description: Discontinuation Notice; ComponentLink3URL: http://www.national.com/obs/obsolescence.txt; ComponentLink4Description: URL Link1; ComponentLink4URL: http://www.national.com/pf/DA/DAC1232.html
footprint N20A (DIP; 20 Leads; Row Spacing 7.62 mm; Pitch 2.54 mm)
3D model N20A (DIP; 20 Leads; Row Spacing 7.62 mm; Pitch 2.54 mm)
pins: 1 ~{CS} (in), 2 ~{WR}1 (in), 3 GND (power), 4 DI7 (in), 5 DI6 (in), 6 DI5 (in), 7 DI4 (in), 8 VREF (in), 9 RFB, 10 GND (power), 11 IOUT1 (out), 12 IOUT2 (out), 13 DI11/DI3 (in), 14 DI10/DI2 (in), 15 DI9/DI1 (in), 16 DI8/DI0 (in), 17 ~{XFER} (in), 18 ~{WR}2 (in), 19 BYTE1/~{BYTE}2 (in), 20 VDD (power)

## DAC1265LCJ
designator U?
High-Speed 12-Bit D/A Converter with Reference; ComponentAvailability: Obsolete; Published: 15-Apr-2002; LatestRevisionDate: 06-Jun-2005; LatestRevisionNote: Stylized 3D Model Added.; PackageVersion: 2000; PackageReference: J24A; Publisher: Altium Limited; PackageDescription: DIP; 24 Leads; Row Spacing 15.24 mm; Pitch 2.54 mm; ComponentLink1Description: Manufacturer Link; ComponentLink1URL: http://www.national.com/; ComponentLink2Description: Discontinuation Notice; ComponentLink2URL: http://www.national.com/obs/obsolescence.txt
footprint J24A (DIP; 24 Leads; Row Spacing 15.24 mm; Pitch 2.54 mm)
3D model J24A (DIP; 24 Leads; Row Spacing 15.24 mm; Pitch 2.54 mm)
pins: 1 NC, 2 NC, 3 VDD (power), 4 10 VREF OUT (out), 5 AGND (power), 6 REF INPUT (in), 7 VEE (power), 8 BIPO (in), 9 IOUT (out), 10 10V RANGE (in), 11 20V RANGE (in), 12 PGND (power), 13 B12 (in), 14 B11 (in), 15 B10 (in), 16 B9 (in), 17 B8 (in), 18 B7 (in), 19 B6 (in), 20 B5 (in), 21 B4 (in), 22 B3 (in), 23 B2 (in), 24 B1 (in)

## DAC1265LJ
designator U?
High-Speed 12-Bit D/A Converter with Reference; Published: 15-Apr-2002; LatestRevisionDate: 06-Jun-2005; LatestRevisionNote: Stylized 3D Model Added.; PackageVersion: 2000; PackageReference: J24A; Publisher: Altium Limited; PackageDescription: DIP; 24 Leads; Row Spacing 15.24 mm; Pitch 2.54 mm; ComponentLink1Description: Manufacturer Link; ComponentLink1URL: http://www.national.com/
footprint J24A (DIP; 24 Leads; Row Spacing 15.24 mm; Pitch 2.54 mm)
3D model J24A (DIP; 24 Leads; Row Spacing 15.24 mm; Pitch 2.54 mm)
pins: 1 NC, 2 NC, 3 VDD (power), 4 10 VREF OUT (out), 5 AGND (power), 6 REF INPUT (in), 7 VEE (power), 8 BIPO (in), 9 IOUT (out), 10 10V RANGE (in), 11 20V RANGE (in), 12 PGND (power), 13 B12 (in), 14 B11 (in), 15 B10 (in), 16 B9 (in), 17 B8 (in), 18 B7 (in), 19 B6 (in), 20 B5 (in), 21 B4 (in), 22 B3 (in), 23 B2 (in), 24 B1 (in)

## DAC1266LCJ
designator U?
High-Speed 12-Bit D/A Converter; ComponentAvailability: Obsolete; Published: 15-Apr-2002; LatestRevisionDate: 06-Jun-2005; LatestRevisionNote: Stylized 3D Model Added.; PackageVersion: 2000; PackageReference: J24A; Publisher: Altium Limited; PackageDescription: DIP; 24 Leads; Row Spacing 15.24 mm; Pitch 2.54 mm; ComponentLink1Description: Manufacturer Link; ComponentLink1URL: http://www.national.com/; ComponentLink2Description: Discontinuation Notice; ComponentLink2URL: http://www.national.com/obs/obsolescence.txt
footprint J24A (DIP; 24 Leads; Row Spacing 15.24 mm; Pitch 2.54 mm)
3D model J24A (DIP; 24 Leads; Row Spacing 15.24 mm; Pitch 2.54 mm)
pins: 1 NC, 2 NC, 3 AGND (power), 4 AMP SUM JN (in), 5 REF IN (in), 6 VEE (power), 7 BIPO (in), 8 NC, 9 IOUT (out), 10 10V RANGE (in), 11 20V RANGE (in), 12 PGND (power), 13 B12 (in), 14 B11 (in), 15 B10 (in), 16 B9 (in), 17 B8 (in), 18 B7 (in), 19 B6 (in), 20 B5 (in), 21 B4 (in), 22 B3 (in), 23 B2 (in), 24 B1 (in)

## DAC1266LJ
designator U?
High-Speed 12-Bit D/A Converter; Published: 15-Apr-2002; LatestRevisionDate: 06-Jun-2005; LatestRevisionNote: Stylized 3D Model Added.; PackageVersion: 2000; PackageReference: J24A; Publisher: Altium Limited; PackageDescription: DIP; 24 Leads; Row Spacing 15.24 mm; Pitch 2.54 mm; ComponentLink1Description: Manufacturer Link; ComponentLink1URL: http://www.national.com/
footprint J24A (DIP; 24 Leads; Row Spacing 15.24 mm; Pitch 2.54 mm)
3D model J24A (DIP; 24 Leads; Row Spacing 15.24 mm; Pitch 2.54 mm)
pins: 1 NC, 2 NC, 3 AGND (power), 4 AMP SUM JN (in), 5 REF IN (in), 6 VEE (power), 7 BIPO (in), 8 NC, 9 IOUT (out), 10 10V RANGE (in), 11 20V RANGE (in), 12 PGND (power), 13 B12 (in), 14 B11 (in), 15 B10 (in), 16 B9 (in), 17 B8 (in), 18 B7 (in), 19 B6 (in), 20 B5 (in), 21 B4 (in), 22 B3 (in), 23 B2 (in), 24 B1 (in)